# Altium schematic symbol library MC1.SchLib: 70 symbols (part 1 of 3)
Pins are listed as number, name and electrical type; pins without a type are passive.

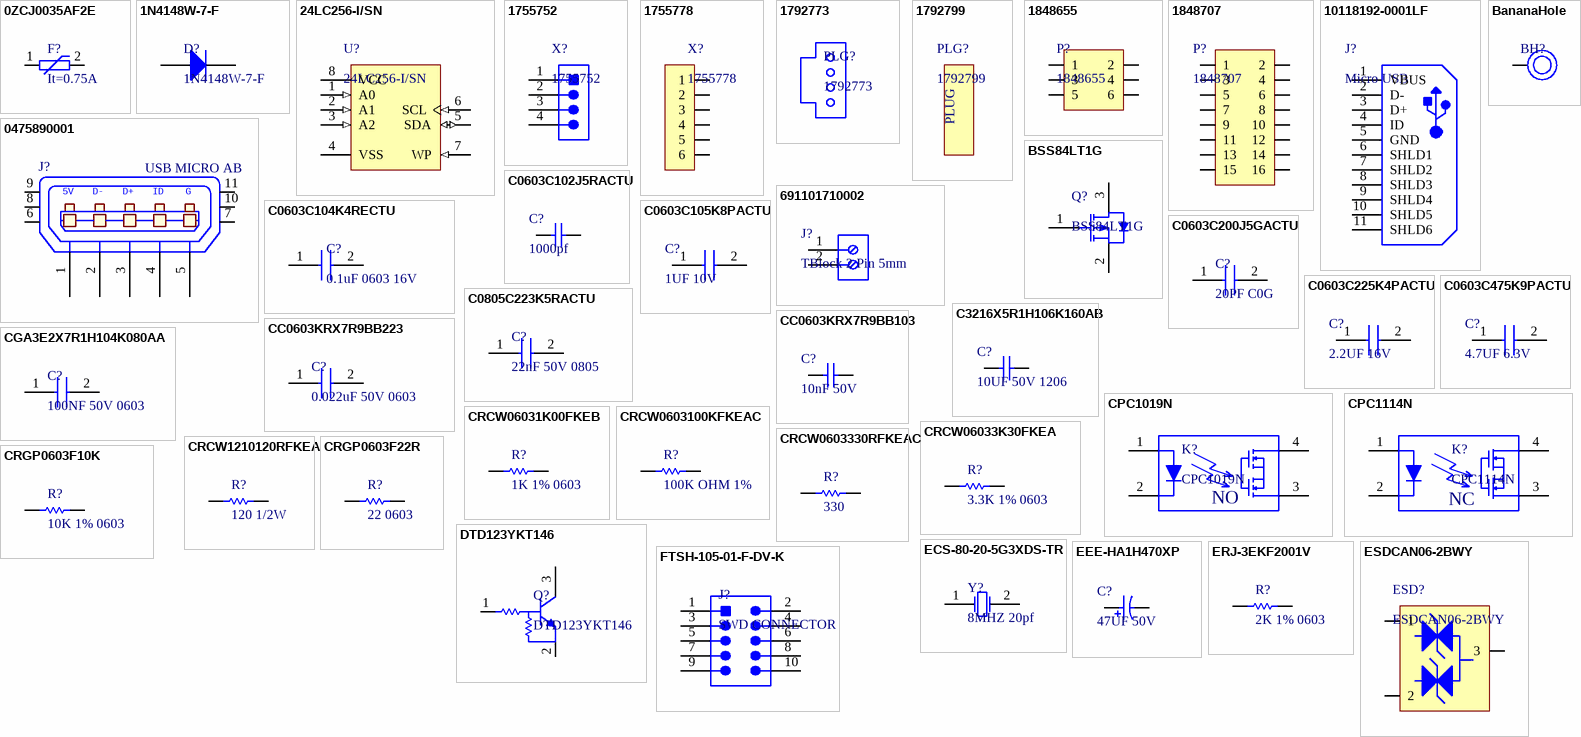
[diagram p0: symbols 0ZCJ0035AF2E to FTSH-105-01-F-DV-K]

## 0ZCJ0035AF2E
designator F?, comment It=0.75A
PTC RESET FUSE 30V 350MA 1206; Manufacturer: Bel; Manufacturer Part Number: 0ZCJ0035AF2E; Max Current Rating: 40A; Power Dissipation: 600mW; Trip Current: 750mA; Time to Trip: 0.1s; Approvals: UL,TUV; Supplier 1: Mouser; Supplier Part Number 1: 530-0ZCJ0035AF2E; RoHS: Yes; Category: Fuses; Stock 1: 19724; Pricing 1: 1=0.17000, 10=0.16700, 25=0.15400, 100=0.11700, 250=0.10600, 500=0.09000 (USD); Mount: Surface Mount; Case/Package: 1206; Case Code (Metric): 3216; Case Code (Imperial): 1206; Contact Plating: Tin,Matte; Number of Terminals: 2; Min Operating Temperature: -40°C; Max Operating Temperature: 85°C; Package Quantity: 3000; Packaging: Tape and Reel; Hold Current: 350mA; Max Voltage Rating (DC): 30V; Lead Free: Lead Free; ComponentLink1URL: https://datasheet.ciiva.com/18550/0zcj-18550696.pdf?src-supplier=Digi-Key; ComponentLink1Description: https://datasheet.ciiva.com/18550/0zcj-18550696.pdf?src-supplier=Digi-Key; ComponentLink2URL: https://datasheet.ciiva.com/18550/0zcj-18550697.pdf?src-supplier=Digi-Key; ComponentLink2Description: https://datasheet.ciiva.com/18550/0zcj-18550697.pdf?src-supplier=Digi-Key
footprint 0ZCJ0035AF2E_FUSE
pins: 1, 2

## 1N4148W-7-F
designator D?
DIODE GEN PURP 100V 300MA SOD123; Manufacturer: Diodes; Reverse Recovery Time: 4ns; Forward Voltage: 1.25V; Element Configuration: Single; Forward Current: 150mA; Peak Non-Repetitive Surge Current: 2A; Power Dissipation: 400mW; Peak Reverse Current: 1uA; Polarity: Standard; Voltage Rating (DC): 75V; Capacitance: 2pF; Current: 15A; Supplier 1: Mouser; Supplier Part Number 1: 621-1N4148W-F; Manufacturer Part Number: 1N4148W-7-F; RoHS: Yes; Category: Rectifier Diodes; Stock 1: 1274151; Pricing 1: 1=0.16000, 10=0.15000, 100=0.05300, 1000=0.03500, 3000=0.02700, 9000=0.02400 (USD); Mount: Surface Mount; Number of Pins: 2; Weight: 0.000353oz; Contact Plating: Tin,Matte; Min Operating Temperature: -65°C; Max Operating Temperature: 150°C; Packaging: Tape and Reel; Max Repetitive Reverse Voltage (Vrrm): 100V; Package Quantity: 3000; Average Rectified Current: 300mA; Max Reverse Voltage (DC): 100V; Recovery Time: 4ns; Max Forward Surge Current (Ifsm): 2A; Max Surge Current: 2A; Current Rating: 150mA; Output Current: 150mA; Voltage: 100V; Power Rating: 400mW; Length: 2.85mm; Height: 1.25mm; Width: 1.7mm; Radiation Hardening: No; Lead Free: Lead Free; REACH SVHC: No SVHC; ComponentLink1URL: https://datasheet.ciiva.com/4435/ds30086-4435128.pdf?src-supplier=Mouser; ComponentLink1Description: https://datasheet.ciiva.com/4435/ds30086-4435128.pdf?src-supplier=Mouser; ComponentLink2URL: https://datasheet.ciiva.com/8300/ds30086-8300392.pdf?src-supplier=Avnet; ComponentLink2Description: https://datasheet.ciiva.com/8300/ds30086-8300392.pdf?src-supplier=Avnet; ComponentLink3URL: https://datasheet.ciiva.com/911/ds30086-911734.pdf?src-supplier=Digi-Key; ComponentLink3Description: https://datasheet.ciiva.com/911/ds30086-911734.pdf?src-supplier=Digi-Key; ComponentLink4URL: https://datasheet.ciiva.com/911/ds30086-911735.pdf?src-supplier=Digi-Key; ComponentLink4Description: https://datasheet.ciiva.com/911/ds30086-911735.pdf?src-supplier=Digi-Key; ComponentLink5URL: https://datasheet.ciiva.com/22695/1915529-22695239.pdf?src-supplier=Element14; ComponentLink5Description: https://datasheet.ciiva.com/22695/1915529-22695239.pdf?src-supplier=Element14; ComponentLink6URL: https://datasheet.ciiva.com/911/ds30086-911736.pdf?src-supplier=Digi-Key; ComponentLink6Description: https://datasheet.ciiva.com/911/ds30086-911736.pdf?src-supplier=Digi-Key; ComponentLink7URL: https://datasheet.ciiva.com/1179/1915529-1179304.pdf?src-supplier=Element14; ComponentLink7Description: https://datasheet.ciiva.com/1179/1915529-1179304.pdf?src-supplier=Element14; ComponentLink8URL: https://datasheet.ciiva.com/25919/ds30086-25919609.pdf?src-supplier=Avnet+Europe; ComponentLink8Description: https://datasheet.ciiva.com/25919/ds30086-25919609.pdf?src-supplier=Avnet+Europe; ComponentLink9URL: https://datasheet.ciiva.com/15219/getdatasheetpartid-110030-15219548.pdf?src-supplier=Verical; ComponentLink9Description: https://datasheet.ciiva.com/15219/getdatasheetpartid-110030-15219548.pdf?src-supplier=Verical; ComponentLink10URL: https://datasheet.ciiva.com/8303/ds30086-8303197.pdf?src-supplier=Avnet; ComponentLink10Description: https://datasheet.ciiva.com/8303/ds30086-8303197.pdf?src-supplier=Avnet
footprint DIOD-SOD123-2_V (SOD123, 2-Leads, Body 2.7x1.55mm, Height 1.45mm)
pins: 1 A, 2 K

## 24LC256-I/SN
designator U?
MICROCHIP - 24LC256-I/SN - EEPROM, 256 Kbit, 32K x 8 bit, Seriell I2C (2-Draht), 400 kHz, SOIC, 8 Pin(s); Access Time: 900ns; Interface: I2C,Serial,2-Wire; Max Supply Voltage: 5.5V; Min Supply Voltage: 2.5V; Frequency: 400kHz; Density: 256Kb; Nominal Supply Current: 3mA; Voltage: 5V; Supplier 1: Mouser; Supplier Part Number 1: 579-24LC256-I/SN; Manufacturer: Microchip; Manufacturer Part Number: 24LC256-I/SN; RoHS: Yes; Category: EEPROM; Stock 1: 4028; Pricing 1: 1=0.81000, 10=0.81000, 25=0.78000, 100=0.76300, 250=0.76300, 500=0.76300 (USD); Mount: Surface Mount; Case/Package: SOIC; Number of Pins: 8; Min Operating Temperature: -40°C; Max Operating Temperature: 85°C; Packaging: Rail/Tube; Max Frequency: 400kHz; Memory Size: 256Kb; Memory Type: EEPROM; Package Quantity: 100; Length: 4.9mm; Height: 1.5mm; Width: 3.9mm; Radiation Hardening: No; Lead Free: Lead Free; REACH SVHC: No SVHC; ComponentLink1URL: https://datasheet.ciiva.com/1155/1688094-1155208.pdf?src-supplier=Element14; ComponentLink1Description: https://datasheet.ciiva.com/1155/1688094-1155208.pdf?src-supplier=Element14; ComponentLink2URL: https://datasheet.ciiva.com/1155/1688094-1155209.pdf?src-supplier=Element14; ComponentLink2Description: https://datasheet.ciiva.com/1155/1688094-1155209.pdf?src-supplier=Element14; ComponentLink3URL: https://datasheet.ciiva.com/16203/filehandler-aspxddocname-en011849-16203855.pdf?src-supplier=Future+Electronics; ComponentLink3Description: https://datasheet.ciiva.com/16203/filehandler-aspxddocname-en011849-16203855.pdf?src-supplier=Future+Electronics; ComponentLink4URL: https://datasheet.ciiva.com/29294/150247-da-01-en-eeprom-24lc256-i-sn-soic8-mcp-29294965.pdf?src-supplier=Conrad; ComponentLink4Description: https://datasheet.ciiva.com/29294/150247-da-01-en-eeprom-24lc256-i-sn-soic8-mcp-29294965.pdf?src-supplier=Conrad
footprint SOIC-SN8_L (SOIC, 8-Leads, Body 4.9x3.9mm, Pitch 1.27mm, IPC High Density)
pins: 1 A0 (in), 2 A1 (in), 3 A2 (in), 4 VSS (power), 5 SDA (io), 6 SCL (in), 7 WP (in), 8 VCC (power)

## 1755752
designator X?
TERM BLOCK HDR 4POS VERT 5.08MM; Manufacturer: Phoenix Contact; Voltage Rating: 250V; Current Rating: 12A; Number of Poles: 4; Number of Levels: 1; Voltage: 300V; Gender: Male; Connector Type: Plug; Approvals: UL,CSA,VDE,cULus,CB; Supplier 1: Mouser; Supplier Part Number 1: 651-1755752; Manufacturer Part Number: 1755752; RoHS: Yes; Category: Terminal Blocks; Stock 1: 2105; Pricing 1: 1=1.40000, 10=1.34000, 50=1.28000, 100=1.25000, 250=1.17000, 500=1.07000 (USD); Mount: Through Hole; Weight: 5.467464oz; Contact Plating: Tin; Color: Green,Grey; Housing Color: Green; Housing Material: Polybutylene; Contact Material: Tin; Package Quantity: 50; Packaging: Bulk; Termination: Solder; Voltage Rating (DC): 250V; Number of Rows: 1; Max Current Rating: 12A; Number of Positions Per Level: 4; Current: 12A; Number of Positions: 4; Number of Contacts: 4; Orientation: Straight; Length: 22.32mm; Height: 15.9mm; Depth: 8.6mm; Width: 22.32mm; Pitch: 5.08mm; REACH SVHC: No SVHC; Lead Free: Lead Free; Flammability Rating: UL94 V-0; ComponentLink1URL: https://datasheet.ciiva.com/15197/getdatasheetpartid-198278-15197316.pdf?src-supplier=Verical; ComponentLink1Description: https://datasheet.ciiva.com/15197/getdatasheetpartid-198278-15197316.pdf?src-supplier=Verical; ComponentLink2URL: https://datasheet.ciiva.com/795/1755752-795435.pdf?src-supplier=Digi-Key; ComponentLink2Description: https://datasheet.ciiva.com/795/1755752-795435.pdf?src-supplier=Digi-Key; ComponentLink3URL: https://datasheet.ciiva.com/16096/1755752-16096364.pdf?src-supplier=Onlinecomponents.com; ComponentLink3Description: https://datasheet.ciiva.com/16096/1755752-16096364.pdf?src-supplier=Onlinecomponents.com; ComponentLink4URL: https://datasheet.ciiva.com/29210/569389-da-01-en-grundgehaeuse-1755752-250-st-29210608.pdf?src-supplier=Conrad; ComponentLink4Description: https://datasheet.ciiva.com/29210/569389-da-01-en-grundgehaeuse-1755752-250-st-29210608.pdf?src-supplier=Conrad
footprint PHOE-1755752-4_V (TH, 4-Leads, Body 21.32x8.6mm, Pitch 5.08mm)
pins: 1, 2, 3, 4

## 1755778
designator X?
TERM BLOCK HDR 6POS VERT 5.08MM; Manufacturer: Phoenix Contact; Voltage Rating: 250V; Current Rating: 12A; Number of Positions: 6; Number of Levels: 1; Voltage: 300V; Gender: Male; Connector Type: Plug; Approvals: UL,CSA,VDE,cULus,CB; Supplier 1: Mouser; Supplier Part Number 1: 651-1755778; Manufacturer Part Number: 1755778; RoHS: Yes; Category: Terminal Blocks; Stock 1: 1122; Pricing 1: 1=1.93000, 10=1.84000, 25=1.82000, 50=1.79000, 100=1.67000, 250=1.54000 (USD); Mount: Through Hole; Weight: 5.467464oz; Contact Plating: Tin; Color: Grey,Green; Housing Color: Green; Housing Material: Polybutylene; Contact Material: Tin; Package Quantity: 50; Packaging: Bulk; Termination: Solder; Max Current Rating: 12A; Number of Positions Per Level: 6; Current: 12A; Number of Contacts: 6; Orientation: Straight; Voltage Rating (DC): 250V; Number of Rows: 1; Number of Poles: 6; Length: 32.48mm; Height: 15.9mm; Pitch: 5.08mm; Depth: 8.6mm; Width: 32.48mm; Lead Free: Lead Free; Flammability Rating: UL94 V-0; REACH SVHC: No SVHC; ComponentLink1URL: https://datasheet.ciiva.com/15197/getdatasheetpartid-176346-15197318.pdf?src-supplier=Verical; ComponentLink1Description: https://datasheet.ciiva.com/15197/getdatasheetpartid-176346-15197318.pdf?src-supplier=Verical; ComponentLink2URL: https://datasheet.ciiva.com/16096/1755778-16096327.pdf?src-supplier=Onlinecomponents.com; ComponentLink2Description: https://datasheet.ciiva.com/16096/1755778-16096327.pdf?src-supplier=Onlinecomponents.com; ComponentLink3URL: https://datasheet.ciiva.com/796/1755778-796714.pdf?src-supplier=Digi-Key; ComponentLink3Description: https://datasheet.ciiva.com/796/1755778-796714.pdf?src-supplier=Digi-Key; ComponentLink4URL: https://datasheet.ciiva.com/29209/568561-da-01-en-grundgehaeuse-1755778-100-st-29209867.pdf?src-supplier=Conrad; ComponentLink4Description: https://datasheet.ciiva.com/29209/568561-da-01-en-grundgehaeuse-1755778-100-st-29209867.pdf?src-supplier=Conrad; ComponentLink5URL: https://datasheet.ciiva.com/18409/70054655-18409468.pdf?src-supplier=Allied+Electronics; ComponentLink5Description: https://datasheet.ciiva.com/18409/70054655-18409468.pdf?src-supplier=Allied+Electronics
footprint MSTBVA2,5/6-GF (Package for 1755778)
pins: 1, 2, 3, 4, 5, 6

## 1792773
designator PLG?  (mechanical)
TERM BLOCK PLUG 4POS 5.08MM; Manufacturer: Phoenix Contact; Number of Contacts: 4; Current Rating: 12A; Voltage Rating: 250V; Gender: Male; Connector Type: Socket; Number of Levels: 1; Current: 15A; Voltage: 300V; Pitch: 0.2inch; Wire Gauge (Max): 24AWG; Wire Gauge (Min): 12AWG; Stripping Length: 7mm; Approvals: UL,CSA,VDE,CB; Supplier 1: Mouser; Supplier Part Number 1: 651-1792773; Manufacturer Part Number: 1792773; RoHS: Yes; Category: Terminal Blocks; Stock 1: 371; Pricing 1: 1=4.44000, 10=4.32000, 25=4.21000, 50=4.03000, 100=3.71000, 250=3.43000 (USD); Mount: Free Hanging,Cable; Weight: 4.691437oz; Contact Plating: Tin; Contact Material: Tin; Color: Green; Housing Color: Green; Housing Material: Polyamide; Material: Nylon; Insulation Material: Nylon; Package Quantity: 50; Number of Positions: 4; Packaging: Bulk; Termination: Screw; Number of Rows: 1; Orientation: Straight; Max Current Rating: 12A; Max Supply Voltage: 250V; Number of Poles: 4; Number of Positions Per Level: 4; Number of Circuits: 4; Length: 20.32mm; Height: 20.32mm; Width: 26mm; Depth: 12.6mm; Wire/Cable Gauge: 24AWG; Radiation Hardening: No; Lead Free: Lead Free; Flammability Rating: UL94 V-0; REACH SVHC: No SVHC; ComponentLink1URL: https://datasheet.ciiva.com/16071/1792773-16071250.pdf?src-supplier=Onlinecomponents.com; ComponentLink1Description: https://datasheet.ciiva.com/16071/1792773-16071250.pdf?src-supplier=Onlinecomponents.com; ComponentLink2URL: https://datasheet.ciiva.com/796/1792773-796790.pdf?src-supplier=Digi-Key; ComponentLink2Description: https://datasheet.ciiva.com/796/1792773-796790.pdf?src-supplier=Digi-Key; ComponentLink3URL: https://datasheet.ciiva.com/15169/getdatasheetpartid-177853-15169639.pdf?src-supplier=Verical; ComponentLink3Description: https://datasheet.ciiva.com/15169/getdatasheetpartid-177853-15169639.pdf?src-supplier=Verical; ComponentLink4URL: https://datasheet.ciiva.com/11758/0900766b811d7320-11758267.pdf?src-supplier=RSComponents; ComponentLink4Description: https://datasheet.ciiva.com/11758/0900766b811d7320-11758267.pdf?src-supplier=RSComponents; ComponentLink5URL: https://datasheet.ciiva.com/1118/100956-1118787.pdf?src-supplier=Element14; ComponentLink5Description: https://datasheet.ciiva.com/1118/100956-1118787.pdf?src-supplier=Element14; ComponentLink6URL: https://datasheet.ciiva.com/14607/70054874-14607269.pdf?src-supplier=Allied+Electronics; ComponentLink6Description: https://datasheet.ciiva.com/14607/70054874-14607269.pdf?src-supplier=Allied+Electronics

## 1792799
designator PLG?  (mechanical)
TERM BLOCK PLUG 6POS 5.08MM; Manufacturer: Phoenix Contact; Number of Contacts: 6; Current Rating: 12A; Gender: Male; Voltage Rating: 250V; Number of Levels: 1; Current: 15A; Voltage: 300V; Connector Type: Socket; Pitch: 0.2inch; Wire/Cable Gauge: 24AWG; Wire Gauge (Max): 30AWG; Wire Gauge (Min): 12AWG; Stripping Length: 7mm; Approvals: UL,CSA,VDE,CB; Supplier 1: Mouser; Supplier Part Number 1: 651-1792799; Manufacturer Part Number: 1792799; RoHS: Yes; Category: Terminal Blocks; Stock 1: 184; Pricing 1: 1=6.63000, 10=6.45000, 25=6.28000, 50=6.02000, 100=5.54000, 250=5.12000 (USD); Mount: Free Hanging,Cable; Weight: 4.691437oz; Contact Plating: Tin; Contact Material: Tin; Color: Green; Housing Color: Green; Housing Material: Polyamide; Material: Nylon; Insulation Material: Nylon; Package Quantity: 50; Packaging: Bulk; Termination: Screw; Orientation: Straight; Number of Rows: 1; Number of Poles: 6; Max Current Rating: 12A; Number of Positions Per Level: 6; Number of Positions: 6; Number of Circuits: 6; Length: 7mm; Height: 26mm; Width: 30.48mm; Lead Free: Lead Free; Flammability Rating: UL94 V-0; REACH SVHC: No SVHC; ComponentLink1URL: https://datasheet.ciiva.com/16071/1792799-16071255.pdf?src-supplier=Onlinecomponents.com; ComponentLink1Description: https://datasheet.ciiva.com/16071/1792799-16071255.pdf?src-supplier=Onlinecomponents.com; ComponentLink2URL: https://datasheet.ciiva.com/11757/0900766b811d7321-11757826.pdf?src-supplier=RSComponents; ComponentLink2Description: https://datasheet.ciiva.com/11757/0900766b811d7321-11757826.pdf?src-supplier=RSComponents; ComponentLink3URL: https://datasheet.ciiva.com/795/1792799-795545.pdf?src-supplier=Digi-Key; ComponentLink3Description: https://datasheet.ciiva.com/795/1792799-795545.pdf?src-supplier=Digi-Key; ComponentLink4URL: https://datasheet.ciiva.com/1118/100956-1118836.pdf?src-supplier=Element14; ComponentLink4Description: https://datasheet.ciiva.com/1118/100956-1118836.pdf?src-supplier=Element14; ComponentLink5URL: https://datasheet.ciiva.com/14607/70054876-14607351.pdf?src-supplier=Allied+Electronics; ComponentLink5Description: https://datasheet.ciiva.com/14607/70054876-14607351.pdf?src-supplier=Allied+Electronics
footprint PLUG_1792799
text: PLUG

## 1848655
designator P?
TERM BLOCK Pluggable Terminal Blocks SDDC 1,5/ 3-PV-3,5; Manufacturer: Phoenix Contact; Supplier 1: Mouser; Supplier Part Number 1: 651-1848655; Manufacturer Part Number: 1848655; RoHS: No; Stock 1: 256; Pricing 1: 1=5.93000, 10=5.69000, 50=5.44000, 100=5.29000, 250=4.94000, 500=4.55000 (USD)
footprint SDDC_1.5_3_PV_3.5
pins: 1, 2, 3, 4, 5, 6

## 1848707
designator P?
TERM BLOCK 8POS TOP ENTRY 3.5MM; Manufacturer: Phoenix Contact; Supplier 1: Mouser; Supplier Part Number 1: 651-1848707; Manufacturer Part Number: 1848707; RoHS: No; Stock 1: 14; Pricing 1: 1=15.15000, 10=14.49000, 25=14.29000, 50=14.10000, 100=13.17000, 250=12.12000 (USD); ComponentLink1URL: https://media.digikey.com/pdf/Data%20Sheets/Phoenix%20Contact%20PDFs/1848707_Ds.pdf?src-supplier=Digi-Key; ComponentLink1Description: https://media.digikey.com/pdf/Data%20Sheets/Phoenix%20Contact%20PDFs/1848707_Ds.pdf?src-supplier=Digi-Key; ComponentLink2URL: http://www.farnell.com/datasheets/2189167.pdf?src-supplier=Farnell; ComponentLink2Description: http://www.farnell.com/datasheets/2189167.pdf?src-supplier=Farnell
footprint SDDC_1.5_8_PV_3.5
pins: 1, 2, 3, 4, 5, 6, 7, 8, 9, 10, 11, 12, 13, 14, 15, 16

## 10118192-0001LF
designator J?, comment Micro USB
CONN RCPT USB2.0 MICRO B SMD R/A; Manufacturer: Amphenol FCI; Manufacturer Part Number: 10118192-0001LF; Number of Ports: 1; Gender: Receptacle; Connector Type: USB,Receptacle; Number of Contacts: 5; Current Rating: 1.8A; Max Voltage Rating (AC): 100V; Insulation Resistance: 1GR; Pitch: 0.65mm; Supplier 1: Mouser; Supplier Part Number 1: 649-10118192-0001LF; RoHS: Yes; Category: USB Connectors; Stock 1: 19028; Pricing 1: 1=0.45000, 10=0.31200, 100=0.30000, 500=0.25700, 1400=0.21400, 2800=0.19600 (USD); Mount: Surface Mount,Horizontal; Contact Plating: Gold; Contact Material: Copper Alloy; Color: Black; Number of Terminals: 5; Housing Material: Polymer; Min Operating Temperature: -55°C; Max Operating Temperature: 85°C; Packaging: Tape and Reel; Package Quantity: 1400; USB Standard: USB 2.0; Termination: Solder; Orientation: Right Angle; Voltage Rating: 100V; Features: Shielded; Length: 7.86mm; Depth: 5.57mm; Radiation Hardening: No; REACH SVHC: No SVHC; Lead Free: Lead Free; Flammability Rating: UL94 V-0; ComponentLink1URL: https://datasheet.ciiva.com/26853/getdatasheetpartid-418041-26853891.pdf?src-supplier=Verical; ComponentLink1Description: https://datasheet.ciiva.com/26853/getdatasheetpartid-418041-26853891.pdf?src-supplier=Verical; ComponentLink2URL: https://datasheet.ciiva.com/851/10118192-851112.pdf?src-supplier=Digi-Key; ComponentLink2Description: https://datasheet.ciiva.com/851/10118192-851112.pdf?src-supplier=Digi-Key; ComponentLink3URL: https://datasheet.ciiva.com/4598/10118192ac-197249-4598796.pdf?src-supplier=Mouser; ComponentLink3Description: https://datasheet.ciiva.com/4598/10118192ac-197249-4598796.pdf?src-supplier=Mouser
footprint FCI-10118192-0001LF-5_V (SMD, 5-Leads, Body 8.05x5.77mm, Pitch 0.65mm)
pins: 1 VBUS, 2 D-, 3 D+, 4 ID, 5 GND, 6 SHLD1, 7 SHLD2, 8 SHLD3, 9 SHLD4, 10 SHLD5, 11 SHLD6

## 0475890001
designator J?, comment USB MICRO AB
CONN RCPT MICRO USB AB R/A SMD; Manufacturer: Molex Inc; Manufacturer Part Number: 0475890001; Connector Type: USB - micro AB; Number of Contacts: 5; Gender: Receptacle; .Creator: MM; RoHS: RoHS Compliant; Category: Connectors, Interconnects; Stock 1: 12754; Pricing 1: 1=0.81, 10=0.764, 25=0.6872, 50=0.6108, 100=0.5854, 250=0.53452, 500=0.50908 (USD); Packaging: Cut Tape (CT); Specifications: -; Mounting Type: Surface Mount, Right Angle, Horizontal; Features: Board Guide, Shielded; Ingress Protection: -; ComponentLink1URL: http://www.molex.com/pdm_docs/sd/475890001_sd.pdf; ComponentLink1Description: http://www.molex.com/pdm_docs/sd/475890001_sd.pdf; .Checked PCB: MM; .Checked SCH: MM; Supplier 1: Mouser; Supplier Part Number 1: 538-47589-0001
footprint USB_MICRO_AB
pins: 1 P1, 2 P2, 3 P3, 4 P4, 5 P5, 6, 7, 8, 9, 10, 11
text: 5V; D-; D+; ID; G

## 691101710002
designator J?, comment TBlock 2 Pin 5mm
PCB Terminal Block 2 Poles, 5 mm Pitch, 691101710002, Würth Elektronik; Manufacturer: Wurth Electronics; Plating: Steel; Number of Contacts: 2; Number of Levels: 1; Current: 16A; Voltage: 250V; Pitch: 0.197inch; Stripping Length: -7mm; Wire Gauge (Max): 26AWG; Wire Gauge (Min): 14AWG; Supplier 1: Mouser; Supplier Part Number 1: 710-691101710002; Manufacturer Part Number: 691101710002; RoHS: Yes; Category: Terminal Blocks; Stock 1: 572; Pricing 1: 1=0.80000, 10=0.68800, 25=0.68800, 50=0.59400, 100=0.59400, 250=0.59400 (USD); Mount: Through Hole; Color: Blue; Contact Material: Brass; Contact Plating: Tin; Housing Material: Nylon; Min Operating Temperature: -40°C; Max Operating Temperature: 105°C; Termination: Screw; Package Quantity: 650; Packaging: Bulk; Number of Positions Per Level: 2; Current Rating: 16A; Voltage Rating: 250V; Length: 9mm; Height: 16.4mm; Width: 11.2mm; Wire/Cable Gauge: 26AWG; REACH SVHC: Unknown; ComponentLink1URL: https://datasheet.ciiva.com/6741/76660-6741488.pdf?src-supplier=Newark; ComponentLink1Description: https://datasheet.ciiva.com/6741/76660-6741488.pdf?src-supplier=Newark; ComponentLink2URL: https://datasheet.ciiva.com/824/6911017100xx-824048.pdf?src-supplier=Digi-Key; ComponentLink2Description: https://datasheet.ciiva.com/824/6911017100xx-824048.pdf?src-supplier=Digi-Key; ComponentLink3URL: https://datasheet.ciiva.com/7629/1442215-7629303.pdf?src-supplier=Element14; ComponentLink3Description: https://datasheet.ciiva.com/7629/1442215-7629303.pdf?src-supplier=Element14; ComponentLink4URL: https://datasheet.ciiva.com/48686/001088590-da-01-en-wr-tbl-terminal-block101-691101710002-48686821.pdf?src-supplier=Conrad; ComponentLink4Description: https://datasheet.ciiva.com/48686/001088590-da-01-en-wr-tbl-terminal-block101-691101710002-48686821.pdf?src-supplier=Conrad
footprint 691101710002 (5,00mm - modular - blue - Horizontal entry with pressure clamp - 12,6mm height - 02p)
pins: 1, 2

## BananaHole
designator BH?  (value not drawn)  (no BOM)
Banana hole for panel testing and board mounting
footprint BananaHole (Hole for banana s)
pins: 1

## BSS84LT1G
designator Q?
MOSFET Housing type: SOT-23 Polarity: P Variants: P-Channel Power dissipation: 225 mW; Manufacturer: ON Semiconductor; Continuous Drain Current (ID): 130mA; Gate to Source Voltage (Vgs): 20V; Input Capacitance: 30pF; Max Power Dissipation: 225mW; Rds On Max: 10R; Drain to Source Voltage (Vdss): 50V; Turn-Off Delay Time: 16ns; Turn-On Delay Time: 3.6ns; Number of Elements: 1; Rise Time: 1ns; Element Configuration: Single; Current Rating: -130mA; Voltage Rating (DC): -50V; Threshold Voltage: -2V; Nominal Vgs: 2V; Supplier 1: Mouser; Supplier Part Number 1: 863-BSS84LT1G; Manufacturer Part Number: BSS84LT1G; RoHS: Yes; Category: MOSFETs; Stock 1: 91895; Pricing 1: 1=0.28000, 10=0.19400, 100=0.08000, 1000=0.05500, 3000=0.04300, 9000=0.03600 (USD); Case/Package: SOT-23-3; Number of Pins: 3; Contact Plating: Tin,Matte; Min Operating Temperature: -55°C; Max Operating Temperature: 150°C; Packaging: Tape and Reel; Power Dissipation: 225mW; Package Quantity: 1; Drain to Source Resistance: 10R; Drain to Source Breakdown Voltage: 50V; Fall Time: 1ns; On-State Resistance: 10R; Length: 0.119inch; Height: 0.04inch; Width: 0.055inch; Radiation Hardening: No; Lead Free: Lead Free; REACH SVHC: No SVHC; Halogen Free: Halogen Free; ComponentLink1URL: https://datasheet.ciiva.com/1190/86068-1190258.pdf?src-supplier=Element14; ComponentLink1Description: https://datasheet.ciiva.com/1190/86068-1190258.pdf?src-supplier=Element14; ComponentLink2URL: https://datasheet.ciiva.com/1255/1747989-1255091.pdf?src-supplier=Newark; ComponentLink2Description: https://datasheet.ciiva.com/1255/1747989-1255091.pdf?src-supplier=Newark; ComponentLink3URL: https://datasheet.ciiva.com/15198/getdatasheetpartid-86905-15198910.pdf?src-supplier=Verical; ComponentLink3Description: https://datasheet.ciiva.com/15198/getdatasheetpartid-86905-15198910.pdf?src-supplier=Verical; ComponentLink4URL: https://datasheet.ciiva.com/1190/86068-1190259.pdf?src-supplier=Element14; ComponentLink4Description: https://datasheet.ciiva.com/1190/86068-1190259.pdf?src-supplier=Element14; ComponentLink5URL: https://datasheet.ciiva.com/27054/1920992-27054773.pdf?src-supplier=Jameco; ComponentLink5Description: https://datasheet.ciiva.com/27054/1920992-27054773.pdf?src-supplier=Jameco; ComponentLink6URL: https://datasheet.ciiva.com/26146/bss84lt1-d-26146231.pdf?src-supplier=Avnet+Europe; ComponentLink6Description: https://datasheet.ciiva.com/26146/bss84lt1-d-26146231.pdf?src-supplier=Avnet+Europe; ComponentLink7URL: https://datasheet.ciiva.com/16335/bss84lt1-d-16335336.pdf?src-supplier=Future+Electronics; ComponentLink7Description: https://datasheet.ciiva.com/16335/bss84lt1-d-16335336.pdf?src-supplier=Future+Electronics; ComponentLink8URL: https://datasheet.ciiva.com/6380/bss84lt1-d-6380649.pdf?src-supplier=Digi-Key; ComponentLink8Description: https://datasheet.ciiva.com/6380/bss84lt1-d-6380649.pdf?src-supplier=Digi-Key; ComponentLink9URL: https://datasheet.ciiva.com/11168/bss84lt1-d-11168266.pdf?src-supplier=Avnet; ComponentLink9Description: https://datasheet.ciiva.com/11168/bss84lt1-d-11168266.pdf?src-supplier=Avnet; ComponentLink10URL: https://datasheet.ciiva.com/6380/bss84lt1-d-6380651.pdf?src-supplier=Digi-Key; ComponentLink10Description: https://datasheet.ciiva.com/6380/bss84lt1-d-6380651.pdf?src-supplier=Digi-Key; ComponentLink11URL: https://datasheet.ciiva.com/6380/bss84lt1-d-6380652.pdf?src-supplier=Digi-Key; ComponentLink11Description: https://datasheet.ciiva.com/6380/bss84lt1-d-6380652.pdf?src-supplier=Digi-Key; ComponentLink12URL: https://datasheet.ciiva.com/8115/bss84lt1-d-8115421.pdf?src-supplier=Avnet; ComponentLink12Description: https://datasheet.ciiva.com/8115/bss84lt1-d-8115421.pdf?src-supplier=Avnet
footprint ONSC-SOT-23-3-318-08_V (SOT23, 3-Leads, Body 2.92x1.3mm, Pitch 0.95mm)
pins: 1 G, 2 S, 3 D

## C0603C102J5RACTU
designator C?, comment 1000pf
KEMET - C0603C102J5RACTU - CAP, 1000PF, 50V, 5%, X7R, 0603; Dielectric Material: Ceramic; Capacitance: 1nF; Dissipation Factor: 2.5%; Supplier 1: Mouser; Supplier Part Number 1: 80-C0603C102J5R; Manufacturer: KEMET; Manufacturer Part Number: C0603C102J5RACTU; RoHS: Yes; Category: Ceramic Capacitors; Stock 1: 145690; Pricing 1: 1=0.10000, 10=0.02500, 100=0.01700, 500=0.01500, 1000=0.01200, 4000=0.00900 (USD); Mount: Surface Mount; Case/Package: 0603; Number of Pins: 2; Case Code (Imperial): 0603; Case Code (Metric): 1608; Min Operating Temperature: -55°C; Max Operating Temperature: 125°C; Tolerance: 5%; Packaging: Tape and Reel; Voltage Rating: 50V; Dielectric: X7R; Voltage Rating (DC): 50V; Package Quantity: 1; Termination: SMD/SMT; Length: 1.6mm; Height: 0.8mm; Width: 0.031inch; Thickness: 0.034inch; Depth: 0.8mm; Lead Pitch: 0.7mm; Radiation Hardening: No; REACH SVHC: No SVHC; ComponentLink1URL: https://datasheet.ciiva.com/39122/docfinderpartnumberc0402c102k5ractu-39122902.pdf?src-supplier=Onlinecomponents.com; ComponentLink1Description: https://datasheet.ciiva.com/39122/docfinderpartnumberc0402c102k5ractu-39122902.pdf?src-supplier=Onlinecomponents.com; ComponentLink2URL: https://datasheet.ciiva.com/45846/docfinderpartnumberc0402c102k5ractu-45846924.pdf?src-supplier=Onlinecomponents.com; ComponentLink2Description: https://datasheet.ciiva.com/45846/docfinderpartnumberc0402c102k5ractu-45846924.pdf?src-supplier=Onlinecomponents.com
footprint CAPC1608X09M (Chip Capacitor, 2-Leads, Body 1.60x0.80mm, IPC Low Density)
pins: 1, 2

## C0603C104K4RECTU
designator C?, comment 0.1uF 0603 16V
Cap Ceramic MLCC  16V 0.1uF 0603 X7R 10%; Manufacturer: KEMET; Manufacturer Part Number: C0603C104K4RECTU; RoHS: No; Stock 1: 41640; Pricing 1: 1=0.11000, 10=0.04800, 100=0.03400, 500=0.02800, 1000=0.02300, 4000=0.01800 (USD); Supplier 1: Mouser; Supplier Part Number 1: 80-C0603C104K4RECTU
footprint CAPC1608X09N (Chip Capacitor, 2-Leads, Body 1.60x0.80mm, IPC Medium Density)
pins: 1, 2

## C0603C105K8PACTU
designator C?, comment 1UF 10V
Cap Ceramic 1uF 10V X5R 10% SMD 0603 85°C Paper T/R; Manufacturer: KEMET; Manufacturer Part Number: C0603C105K8PACTU; Supplier 1: Mouser; Supplier Part Number 1: 80-C0603C105K8P; RoHS: Yes; Category: Ceramic Capacitors; Stock 1: 122683; Pricing 1: 1=0.10000, 10=0.06100, 100=0.02700, 500=0.01900, 1000=0.01500, 4000=0.01100 (USD); Mount: Surface Mount; Case/Package: 0603; Number of Pins: 2; Weight: 7.1E-05oz; Case Code (Imperial): 0603; Case Code (Metric): 1608; Dielectric Material: Ceramic; Min Operating Temperature: -55°C; Max Operating Temperature: 85°C; Tolerance: 10%; Capacitance: 1uF; Packaging: Tape and Reel; Dielectric: X5R; Voltage Rating (DC): 10V; Voltage Rating: 10V; Package Quantity: 1; Termination: SMD/SMT; Voltage: 10V; Length: 1.6mm; Height: 0.8mm; Depth: 0.8mm; Width: 0.031inch; Thickness: 0.035inch; Radiation Hardening: No; REACH SVHC: No SVHC; Lead Free: Lead Free; ComponentLink1URL: https://datasheet.ciiva.com/11787/0900766b8116eb59-11787747.pdf?src-supplier=RSComponents; ComponentLink1Description: https://datasheet.ciiva.com/11787/0900766b8116eb59-11787747.pdf?src-supplier=RSComponents; ComponentLink2URL: https://datasheet.ciiva.com/7823/1929483-7823999.pdf?src-supplier=Element14; ComponentLink2Description: https://datasheet.ciiva.com/7823/1929483-7823999.pdf?src-supplier=Element14; ComponentLink3URL: https://datasheet.ciiva.com/6074/40889-6074647.pdf?src-supplier=Farnell; ComponentLink3Description: https://datasheet.ciiva.com/6074/40889-6074647.pdf?src-supplier=Farnell; ComponentLink4URL: https://datasheet.ciiva.com/28645/1831760-28645655.pdf?src-supplier=Element14; ComponentLink4Description: https://datasheet.ciiva.com/28645/1831760-28645655.pdf?src-supplier=Element14; ComponentLink5URL: https://datasheet.ciiva.com/26847/getdatasheetpartid-385480-26847548.pdf?src-supplier=Verical; ComponentLink5Description: https://datasheet.ciiva.com/26847/getdatasheetpartid-385480-26847548.pdf?src-supplier=Verical; ComponentLink6URL: https://datasheet.ciiva.com/7823/40889-7823998.pdf?src-supplier=Element14; ComponentLink6Description: https://datasheet.ciiva.com/7823/40889-7823998.pdf?src-supplier=Element14
footprint CAPC1608X90X20LL10 (Chip Capacitor, 2-Leads, Body 1.70x0.90mm, IPC High Density)
pins: 1, 2

## C0603C200J5GACTU
designator C?, comment 20PF C0G
Multilayer Ceramic Capacitor, C Series, 20 pF, - 5%, C0G / NP0, 50 V, 0603 [1608 Metric] ;RoHS Compliant: Yes; Manufacturer: KEMET; Manufacturer Part Number: C0603C200J5GACTU; Voltage Rating: 50V; Dissipation Factor: 0.1%; Temperature Coefficient: 30ppm/°C; Supplier 1: Mouser; Supplier Part Number 1: 80-C0603C200J5G; RoHS: Yes; Category: Ceramic Capacitors; Stock 1: 29394; Pricing 1: 1=0.30000, 10=0.15700, 100=0.09400, 500=0.08300, 1000=0.07400, 4000=0.05800 (USD); Mount: Surface Mount; Case/Package: 0603; Number of Pins: 2; Case Code (Metric): 1608; Case Code (Imperial): 0603; Dielectric Material: Ceramic; Min Operating Temperature: -55°C; Max Operating Temperature: 125°C; Package Quantity: 1; Capacitance: 20pF; Packaging: Tape and Reel; Voltage Rating (DC): 50V; Dielectric: C0G; Termination: SMD/SMT; Tolerance: 5%; Voltage: 50V; Length: 1.6mm; Height: 0.8mm; Width: 0.031inch; Thickness: 0.034inch; Depth: 0.8mm; Lead Pitch: 0.7mm; Radiation Hardening: No; Lead Free: Lead Free; REACH SVHC: No SVHC; ComponentLink1URL: https://datasheet.ciiva.com/7823/1732696-7823671.pdf?src-supplier=Element14; ComponentLink1Description: https://datasheet.ciiva.com/7823/1732696-7823671.pdf?src-supplier=Element14; ComponentLink2URL: https://datasheet.ciiva.com/18101/getdatasheetpartid-56012-18101690.pdf?src-supplier=Verical; ComponentLink2Description: https://datasheet.ciiva.com/18101/getdatasheetpartid-56012-18101690.pdf?src-supplier=Verical; ComponentLink3URL: https://datasheet.ciiva.com/5424/kem-c1003-c0g-smd-356956-5424269.pdf?src-supplier=Mouser; ComponentLink3Description: https://datasheet.ciiva.com/5424/kem-c1003-c0g-smd-356956-5424269.pdf?src-supplier=Mouser
footprint CAPC1608X87N
pins: 1, 2

## C0603C225K4PACTU
designator C?, comment 2.2UF 16V
KEMET - C0603C225K4PACTU - CAP, MLCC, X5R, 2.2UF, 16V, 0603; Dielectric Material: Ceramic; Tolerance: 10%; Dissipation Factor: 5%; Supplier 1: Mouser; Supplier Part Number 1: 80-C0603C225K4P; Manufacturer: KEMET; Manufacturer Part Number: C0603C225K4PACTU; RoHS: Yes; Category: Ceramic Capacitors; Stock 1: 77579; Pricing 1: 1=0.14000, 10=0.10300, 100=0.04800, 500=0.03400, 1000=0.02800, 4000=0.02000 (USD); Mount: Surface Mount; Case/Package: 0603; Number of Pins: 2; Case Code (Imperial): 0603; Case Code (Metric): 1608; Contact Plating: Tin,Matte; Min Operating Temperature: -55°C; Max Operating Temperature: 85°C; Capacitance: 2.2uF; Voltage Rating: 16V; Voltage Rating (DC): 16V; Packaging: Tape and Reel; Package Quantity: 1; Termination: SMD/SMT; Dielectric: X5R; Voltage: 16V; Length: 1.6mm; Height: 0.8mm; Width: 0.8mm; Depth: 0.8mm; Thickness: 0.034inch; Radiation Hardening: No; Lead Free: Lead Free; REACH SVHC: No SVHC; ComponentLink1URL: https://datasheet.ciiva.com/5969/1776083-5969304.pdf?src-supplier=Farnell; ComponentLink1Description: https://datasheet.ciiva.com/5969/1776083-5969304.pdf?src-supplier=Farnell; ComponentLink2URL: https://datasheet.ciiva.com/7823/1776083-7823706.pdf?src-supplier=Element14; ComponentLink2Description: https://datasheet.ciiva.com/7823/1776083-7823706.pdf?src-supplier=Element14
footprint CAPC1608X09M (Chip Capacitor, 2-Leads, Body 1.60x0.80mm, IPC Low Density)
pins: 1, 2

## C0603C475K9PACTU
designator C?, comment 4.7UF 6.3V
KEMET - C0603C475K9PACTU - KONDENSATOR, 4.7µF, 6.3V, 10%, X5R, 0603; Dielectric Material: Ceramic; Dissipation Factor: 5%; Supplier 1: Mouser; Supplier Part Number 1: 80-C0603C475K9P; Manufacturer: KEMET; Manufacturer Part Number: C0603C475K9PACTU; RoHS: Yes; Category: Ceramic Capacitors; Stock 1: 258514; Pricing 1: 1=0.17000, 10=0.12000, 100=0.05600, 500=0.03900, 1000=0.03200, 4000=0.02400 (USD); Mount: Surface Mount,PCB; Case/Package: 0603; Number of Pins: 2; Case Code (Metric): 1608; Case Code (Imperial): 0603; Contact Plating: Tin,Matte; Min Operating Temperature: -55°C; Max Operating Temperature: 85°C; Capacitance: 4.7uF; Voltage Rating: 6.3V; Tolerance: 10%; Packaging: Tape and Reel; Package Quantity: 1; Voltage Rating (DC): 6.3V; Termination: SMD/SMT; Dielectric: X5R; Voltage: 6.3V; Length: 1.6mm; Height: 0.8mm; Width: 0.031inch; Depth: 0.8mm; Thickness: 0.035inch; Lead Pitch: 0.7mm; Radiation Hardening: No; Lead Free: Lead Free; REACH SVHC: No SVHC; ComponentLink1URL: https://datasheet.ciiva.com/145/docfinderpartnumber-c0603c475k9pactu-145072.pdf?src-supplier=Digi-Key; ComponentLink1Description: https://datasheet.ciiva.com/145/docfinderpartnumber-c0603c475k9pactu-145072.pdf?src-supplier=Digi-Key; ComponentLink2URL: https://datasheet.ciiva.com/7823/1732700-7823808.pdf?src-supplier=Element14; ComponentLink2Description: https://datasheet.ciiva.com/7823/1732700-7823808.pdf?src-supplier=Element14; ComponentLink3URL: https://datasheet.ciiva.com/28682/1789732-28682301.pdf?src-supplier=Element14; ComponentLink3Description: https://datasheet.ciiva.com/28682/1789732-28682301.pdf?src-supplier=Element14; ComponentLink4URL: https://datasheet.ciiva.com/7824/40889-7824047.pdf?src-supplier=Element14; ComponentLink4Description: https://datasheet.ciiva.com/7824/40889-7824047.pdf?src-supplier=Element14
footprint CAPC1608X90X20LL10 (Chip Capacitor, 2-Leads, Body 1.70x0.90mm, IPC High Density)
pins: 1, 2

## C0805C223K5RACTU
designator C?, comment 22nF 50V 0805
KEMET - C0805C223K5RACTU - CAP, MLCC, X7R, 22NF, 50V, 0805; Dielectric Material: Ceramic; Tolerance: 10%; Supplier 1: Mouser; Supplier Part Number 1: 80-C0805C223K5R; Manufacturer: KEMET; Manufacturer Part Number: C0805C223K5RACTU; RoHS: Yes; Category: Ceramic Capacitors; Stock 1: 115191; Pricing 1: 1=0.10000, 10=0.04200, 100=0.02400, 500=0.01900, 1000=0.01500, 4000=0.01000 (USD); Mount: Surface Mount; Case/Package: 0805; Min Operating Temperature: -55°C; Max Operating Temperature: 125°C; Packaging: Tape and Reel; Capacitance: 22nF; Voltage Rating (DC): 50V; Dielectric: X7R; Voltage: 50V; Length: 2mm; Height: 0.78mm; Depth: 1.25mm; Radiation Hardening: No; ComponentLink1URL: https://datasheet.ciiva.com/18193/getdatasheetpartid-385695-18193669.pdf?src-supplier=Verical; ComponentLink1Description: https://datasheet.ciiva.com/18193/getdatasheetpartid-385695-18193669.pdf?src-supplier=Verical
footprint CAPC2012X09N (Chip Capacitor, 2-Leads, Body 2.00x1.25mm, IPC Medium Density)
pins: 1, 2

## C3216X5R1H106K160AB
designator C?, comment 10UF 50V 1206
CAP CER 10UF 50V X5R 1206; Manufacturer: TDK; Manufacturer Part Number: C3216X5R1H106K160AB; Dielectric Material: Ceramic; Tolerance: 10%; Supplier 1: Mouser; Supplier Part Number 1: 810-C3216X5R1H106K; RoHS: Yes; Category: Ceramic Capacitors; Stock 1: 145018; Pricing 1: 1=0.88000, 10=0.73100, 100=0.51800, 500=0.40900, 1000=0.35200, 2000=0.28700 (USD); Mount: Surface Mount; Case/Package: 1206; Weight: 0.000571oz; Case Code (Metric): 3216; Case Code (Imperial): 1206; Min Operating Temperature: -55°C; Max Operating Temperature: 85°C; Packaging: Tape and Reel; Capacitance: 10uF; Voltage Rating (DC): 50V; Dielectric: X5R; Package Quantity: 1; Voltage Rating: 50V; Termination: SMD/SMT; Voltage: 50V; Composition: Ceramic; Length: 3.2mm; Height: 1.6mm; Width: 0.063inch; Thickness: 0.071inch; Depth: 1.6mm; Radiation Hardening: No; REACH SVHC: No SVHC; Lead Free: Lead Free; ComponentLink1URL: https://datasheet.ciiva.com/24216/c3216x5r1h106k160ab-265364-24216574.pdf?src-supplier=Mouser; ComponentLink1Description: https://datasheet.ciiva.com/24216/c3216x5r1h106k160ab-265364-24216574.pdf?src-supplier=Mouser; ComponentLink2URL: https://datasheet.ciiva.com/6285/tdkmlcccaprange-6285895.pdf?src-supplier=Digi-Key; ComponentLink2Description: https://datasheet.ciiva.com/6285/tdkmlcccaprange-6285895.pdf?src-supplier=Digi-Key; ComponentLink3URL: https://datasheet.ciiva.com/24365/1865c3216x5r1h106k160ab-24365495.pdf?src-supplier=Onlinecomponents.com; ComponentLink3Description: https://datasheet.ciiva.com/24365/1865c3216x5r1h106k160ab-24365495.pdf?src-supplier=Onlinecomponents.com; ComponentLink4URL: https://datasheet.ciiva.com/22719/1796654-22719560.pdf?src-supplier=Element14; ComponentLink4Description: https://datasheet.ciiva.com/22719/1796654-22719560.pdf?src-supplier=Element14; ComponentLink5URL: https://datasheet.ciiva.com/28659/mlcc-commercial-general-en-28659437.pdf?src-supplier=Element14; ComponentLink5Description: https://datasheet.ciiva.com/28659/mlcc-commercial-general-en-28659437.pdf?src-supplier=Element14; ComponentLink6URL: https://datasheet.ciiva.com/17487/e412-c-17487294.pdf?src-supplier=Avnet+Europe; ComponentLink6Description: https://datasheet.ciiva.com/17487/e412-c-17487294.pdf?src-supplier=Avnet+Europe; ComponentLink7URL: https://datasheet.ciiva.com/6285/tdkmlcccaprange-6285893.pdf?src-supplier=Digi-Key; ComponentLink7Description: https://datasheet.ciiva.com/6285/tdkmlcccaprange-6285893.pdf?src-supplier=Digi-Key; ComponentLink8URL: https://datasheet.ciiva.com/22725/1913358-22725589.pdf?src-supplier=Element14; ComponentLink8Description: https://datasheet.ciiva.com/22725/1913358-22725589.pdf?src-supplier=Element14; ComponentLink9URL: https://datasheet.ciiva.com/23803/1796654-23803045.pdf?src-supplier=Newark; ComponentLink9Description: https://datasheet.ciiva.com/23803/1796654-23803045.pdf?src-supplier=Newark; ComponentLink10URL: https://datasheet.ciiva.com/28452/1796654-28452010.pdf?src-supplier=Element14; ComponentLink10Description: https://datasheet.ciiva.com/28452/1796654-28452010.pdf?src-supplier=Element14
footprint CAPC3216X180X20ML20 (Chip Capacitor, 2-Leads, Body 3.40x1.80mm, IPC Low Density)
pins: 1, 2

## CC0603KRX7R9BB103
designator C?, comment 10nF 50V
Cap Ceramic 0.01uF 50V X7R 10% SMD 0603 125C Automotive T/R; Manufacturer: Yageo; Manufacturer Part Number: CC0603KRX7R9BB103; Insulation Resistance: 100GR; Supplier 1: Mouser; Supplier Part Number 1: 603-CC603KRX7R9BB103; RoHS: Yes; Category: Ceramic Capacitors; Stock 1: 2579425; Pricing 1: 1=0.10000, 10=0.03600, 100=0.01200, 1000=0.00900, 4000=0.00700, 8000=0.00600 (USD); Mount: Surface Mount; Case/Package: 0603; Number of Pins: 2; Case Code (Metric): 1608; Case Code (Imperial): 0603; Material: Ceramic; Min Operating Temperature: -55°C; Max Operating Temperature: 125°C; Tolerance: 10%; Capacitance: 10nF; Voltage Rating (DC): 50V; Dielectric: X7R; Packaging: Tape and Reel; Termination: SMD/SMT; Voltage Rating: 50V; Package Quantity: 1; Voltage: 50V; Composition: Ceramic; Length: 1.6mm; Height: 0.8mm; Width: 0.031inch; Depth: 0.8mm; Thickness: 0.035inch; Radiation Hardening: No; Lead Free: Lead Free; REACH SVHC: No SVHC; Halogen Free: Halogen Free; ComponentLink1URL: https://datasheet.ciiva.com/11788/0900766b8079c870-11788374.pdf?src-supplier=RSComponents; ComponentLink1Description: https://datasheet.ciiva.com/11788/0900766b8079c870-11788374.pdf?src-supplier=RSComponents; ComponentLink2URL: https://datasheet.ciiva.com/26862/getdatasheetpartid-403582-26862846.pdf?src-supplier=Verical; ComponentLink2Description: https://datasheet.ciiva.com/26862/getdatasheetpartid-403582-26862846.pdf?src-supplier=Verical; ComponentLink3URL: https://datasheet.ciiva.com/8033/1734573-8033861.pdf?src-supplier=Element14; ComponentLink3Description: https://datasheet.ciiva.com/8033/1734573-8033861.pdf?src-supplier=Element14; ComponentLink4URL: https://datasheet.ciiva.com/176/mlccorderingcode-176550.pdf?src-supplier=Digi-Key; ComponentLink4Description: https://datasheet.ciiva.com/176/mlccorderingcode-176550.pdf?src-supplier=Digi-Key; ComponentLink5URL: https://datasheet.ciiva.com/176/mlccorderingcode-176551.pdf?src-supplier=Digi-Key; ComponentLink5Description: https://datasheet.ciiva.com/176/mlccorderingcode-176551.pdf?src-supplier=Digi-Key; ComponentLink6URL: https://datasheet.ciiva.com/13389/upy-gphc-x7r-6-3v-to-50v-8-13389991.pdf?src-supplier=Mouser; ComponentLink6Description: https://datasheet.ciiva.com/13389/upy-gphc-x7r-6-3v-to-50v-8-13389991.pdf?src-supplier=Mouser; ComponentLink7URL: https://datasheet.ciiva.com/176/mlccorderingcode-176552.pdf?src-supplier=Digi-Key; ComponentLink7Description: https://datasheet.ciiva.com/176/mlccorderingcode-176552.pdf?src-supplier=Digi-Key; ComponentLink8URL: https://datasheet.ciiva.com/8033/1734573-8033816.pdf?src-supplier=Element14; ComponentLink8Description: https://datasheet.ciiva.com/8033/1734573-8033816.pdf?src-supplier=Element14; ComponentLink9URL: https://datasheet.ciiva.com/8033/70765-8033817.pdf?src-supplier=Element14; ComponentLink9Description: https://datasheet.ciiva.com/8033/70765-8033817.pdf?src-supplier=Element14; ComponentLink10URL: https://datasheet.ciiva.com/16625/upy-gphc-x7r-6-3v-to-50v-8-16625529.pdf?src-supplier=Avnet+Europe; ComponentLink10Description: https://datasheet.ciiva.com/16625/upy-gphc-x7r-6-3v-to-50v-8-16625529.pdf?src-supplier=Avnet+Europe; ComponentLink11URL: https://datasheet.ciiva.com/28450/1489800-28450619.pdf?src-supplier=Element14; ComponentLink11Description: https://datasheet.ciiva.com/28450/1489800-28450619.pdf?src-supplier=Element14
footprint CAPC1608X09N (Chip Capacitor, 2-Leads, Body 1.60x0.80mm, IPC Medium Density)
pins: 1, 2

## CC0603KRX7R9BB223
designator C?, comment 0.022uF 50V 0603
Cap Ceramic 0.022uF 50V X7R 0603; Manufacturer: Yageo; Manufacturer Part Number: CC0603KRX7R9BB223; Capacitance: 22nF; Tolerance: 10%; Insulation Resistance: 100GR; Supplier 1: Digi-Key; RoHS: Yes; Category: Ceramic Capacitors; Stock 1: 203085; Pricing 1: 1=0.10000, 10=0.06100, 100=0.02720, 500=0.01946, 1000=0.01529 (USD); Mount: Surface Mount; Case/Package: 0603; Number of Pins: 2; Case Code (Metric): 1608; Case Code (Imperial): 0603; Dielectric Material: Ceramic; Min Operating Temperature: -55°C; Max Operating Temperature: 125°C; Dielectric: X7R; Voltage: 50V; Package Quantity: 1; Voltage Rating: 50V; Packaging: Tape and Reel; Voltage Rating (DC): 50V; Termination: SMD/SMT; Composition: Ceramic; Length: 1.6mm; Height: 0.8mm; Depth: 0.8mm; Width: 0.031inch; Thickness: 0.035inch; Radiation Hardening: No; REACH SVHC: No SVHC; Lead Free: Lead Free; Halogen Free: Halogen Free; ComponentLink1URL: https://datasheet.ciiva.com/11464/upy-gphc-x7r-6-3v-to-50v-8-11464741.pdf?src-supplier=Avnet; ComponentLink1Description: https://datasheet.ciiva.com/11464/upy-gphc-x7r-6-3v-to-50v-8-11464741.pdf?src-supplier=Avnet; ComponentLink2URL: https://datasheet.ciiva.com/16625/upy-gphc-x7r-6-3v-to-50v-8-16625532.pdf?src-supplier=Avnet+Europe; ComponentLink2Description: https://datasheet.ciiva.com/16625/upy-gphc-x7r-6-3v-to-50v-8-16625532.pdf?src-supplier=Avnet+Europe; ComponentLink3URL: https://datasheet.ciiva.com/8033/70765-8033869.pdf?src-supplier=Element14; ComponentLink3Description: https://datasheet.ciiva.com/8033/70765-8033869.pdf?src-supplier=Element14; ComponentLink4URL: https://datasheet.ciiva.com/156/mlccorderingcode-156177.pdf?src-supplier=Digi-Key; ComponentLink4Description: https://datasheet.ciiva.com/156/mlccorderingcode-156177.pdf?src-supplier=Digi-Key; ComponentLink5URL: https://datasheet.ciiva.com/156/mlccorderingcode-156178.pdf?src-supplier=Digi-Key; ComponentLink5Description: https://datasheet.ciiva.com/156/mlccorderingcode-156178.pdf?src-supplier=Digi-Key; ComponentLink6URL: https://datasheet.ciiva.com/156/mlccorderingcode-156179.pdf?src-supplier=Digi-Key; ComponentLink6Description: https://datasheet.ciiva.com/156/mlccorderingcode-156179.pdf?src-supplier=Digi-Key; ComponentLink7URL: https://datasheet.ciiva.com/8033/1489800-8033865.pdf?src-supplier=Element14; ComponentLink7Description: https://datasheet.ciiva.com/8033/1489800-8033865.pdf?src-supplier=Element14; ComponentLink8URL: https://datasheet.ciiva.com/8033/1489800-8033867.pdf?src-supplier=Element14; ComponentLink8Description: https://datasheet.ciiva.com/8033/1489800-8033867.pdf?src-supplier=Element14; ComponentLink9URL: https://datasheet.ciiva.com/28450/1489800-28450639.pdf?src-supplier=Element14; ComponentLink9Description: https://datasheet.ciiva.com/28450/1489800-28450639.pdf?src-supplier=Element14; Supplier Part Number 1: 311-1370-1-ND
footprint CAPC1608X87N
pins: 1, 2

## CGA3E2X7R1H104K080AA
designator C?, comment 100NF 50V 0603
CAP CER 0.1UF 50V X7R 0603; Manufacturer: TDK; Manufacturer Part Number: CGA3E2X7R1H104K080AA; Tolerance: 10%; Supplier 1: Mouser; Supplier Part Number 1: 810-CGA3E2X7R1H104K; RoHS: Yes; Category: Ceramic Capacitors; Stock 1: 6585474; Pricing 1: 1=0.10000, 10=0.07500, 100=0.03300, 500=0.02300, 1000=0.01800, 4000=0.01300 (USD); Mount: Surface Mount; Case/Package: 0603; Weight: 7.1E-05oz; Case Code (Imperial): 0603; Case Code (Metric): 1608; Min Operating Temperature: -55°C; Max Operating Temperature: 125°C; Capacitance: 100nF; Packaging: Tape and Reel; Voltage Rating: 50V; Dielectric: X7R; Package Quantity: 1; Voltage Rating (DC): 50V; Termination: SMD/SMT; Voltage: 50V; Composition: Ceramic; Length: 1.6mm; Height: 0.8mm; Width: 0.8mm; Depth: 0.8mm; Thickness: 0.035inch; Ratings: AEC-Q200; Radiation Hardening: No; REACH SVHC: No SVHC; Lead Free: Lead Free; ComponentLink1URL: https://datasheet.ciiva.com/24216/cga3e2x7r1h104k080aa-266291-24216208.pdf?src-supplier=Mouser; ComponentLink1Description: https://datasheet.ciiva.com/24216/cga3e2x7r1h104k080aa-266291-24216208.pdf?src-supplier=Mouser; ComponentLink2URL: https://datasheet.ciiva.com/15192/getdatasheetpartid-715867-15192412.pdf?src-supplier=Verical; ComponentLink2Description: https://datasheet.ciiva.com/15192/getdatasheetpartid-715867-15192412.pdf?src-supplier=Verical; ComponentLink3URL: https://datasheet.ciiva.com/22725/1735392-22725642.pdf?src-supplier=Element14; ComponentLink3Description: https://datasheet.ciiva.com/22725/1735392-22725642.pdf?src-supplier=Element14; ComponentLink4URL: https://datasheet.ciiva.com/16500/mlccspec-automotive-general-midvoltage-en-16500693.pdf?src-supplier=Future+Electronics; ComponentLink4Description: https://datasheet.ciiva.com/16500/mlccspec-automotive-general-midvoltage-en-16500693.pdf?src-supplier=Future+Electronics; ComponentLink5URL: https://datasheet.ciiva.com/23803/1936565-23803084.pdf?src-supplier=Newark; ComponentLink5Description: https://datasheet.ciiva.com/23803/1936565-23803084.pdf?src-supplier=Newark; ComponentLink6URL: https://datasheet.ciiva.com/46385/1735392-46385708.pdf?src-supplier=Element14; ComponentLink6Description: https://datasheet.ciiva.com/46385/1735392-46385708.pdf?src-supplier=Element14
footprint CAPC1608X90X20LL10 (Chip Capacitor, 2-Leads, Body 1.70x0.90mm, IPC High Density)
pins: 1, 2